# Altium schematic symbol library RES-SM-0402-NC.Schlib: 1 symbol
Pins are listed as number, name and electrical type; pins without a type are passive.

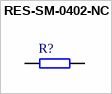
[diagram p0: symbol RES-SM-0402-NC]

## RES-SM-0402-NC
designator R?, comment Resistor  (value not drawn)
RES SM 0402 NC
pins: 1, 2